# Altium footprint library LESD5D5P0CT1G.PcbLib: 3 footprints
Each footprint in its own frame and in the unit in brackets; x right, y up, seen from the top. Pads: shape width x height; smd on the part's side, far side on the other; paste and mask are expansions set on the pad; w line width, h text height; cw(c..) or ccw(c..) is an arc to the next point about the centre after c.
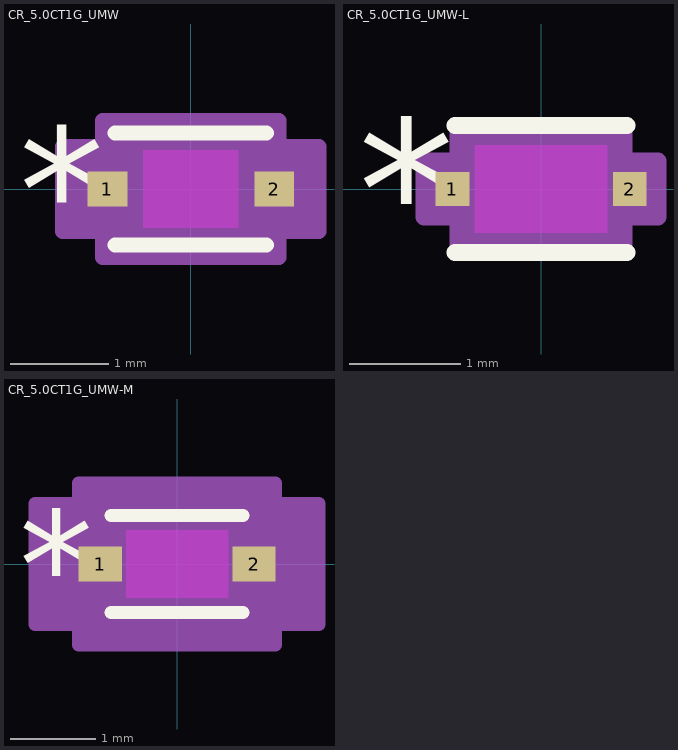
[diagram p0: the footprints below, top view; thin cyan lines are the x and y axes]

## CR_5.0CT1G_UMW [mil]
pads (2):
  rect 16x14 smd paste+0 mask+0: 1(-33.5,0) 2(33.5,0)
Top Layer keep-out:
  region: -19,-15.5 -19,15.5 19,15.5 19,-15.5
Top Overlay:
  lines w6: -30.5,-22.5 30.5,-22.5 ; -30.5,22.5 30.5,22.5
  text "*" at -69,-25 h50
Keep-Out Layer:
  region: -19,-15.5 -19,15.5 19,15.5 19,-15.5
Mechanical 13:
  lines w1: -25.5,-8.75 -16.75,-17.5 ; -25.5,8.75 -16.75,17.5 ; -33.5,-7 -25.5,-7 -25.5,7 -33.5,7 -33.5,-7 ; -25.5,-17.5 -25.5,17.5 25.5,17.5 25.5,-17.5 -25.5,-17.5 ; 25.5,-7 33.5,-7 33.5,7 25.5,7 25.5,-7
  text "*" at -28,-25 h50
Mechanical 15:
  region: -35.5,-17 -51.5,-17 -51.5,17 -35.5,17 -35.5,27.5 35.5,27.5 35.5,17 51.5,17 51.5,-17 35.5,-17 35.5,-27.5 -35.5,-27.5
  lines w6: -51.5,-17 -35.5,-17 -35.5,-27.5 35.5,-27.5 35.5,-17 51.5,-17 51.5,17 35.5,17 35.5,27.5 -35.5,27.5 -35.5,17 -51.5,17 -51.5,-17
3D body "CR_50CT1G_UMW.step": height 28.27, standoff 0, extent -33.5,-17.48 33.5,17.48

## CR_5.0CT1G_UMW-L [mil]
pads (2):
  rect 12x12 smd paste+0 mask+0: 1(-31.5,0) 2(31.5,0)
Top Layer keep-out:
  region: -23.5,-15.5 -23.5,15.5 23.5,15.5 23.5,-15.5
Top Overlay:
  lines w6: -30.5,-22.5 30.5,-22.5 ; -30.5,22.5 30.5,22.5
  text "*" at -65,-25 h50
Keep-Out Layer:
  region: -23.5,-15.5 -23.5,15.5 23.5,15.5 23.5,-15.5
Mechanical 13:
  lines w1: -25.5,-8.75 -16.75,-17.5 ; -25.5,8.75 -16.75,17.5 ; -33.5,-7 -33.5,7 -25.5,7 -25.5,-7 -33.5,-7 ; -25.5,-17.5 25.5,-17.5 25.5,17.5 -25.5,17.5 -25.5,-17.5 ; 25.5,-7 25.5,7 33.5,7 33.5,-7 25.5,-7
  text "*" at -28,-25 h50
Mechanical 15:
  region: -29.5,-10 -41.5,-10 -41.5,10 -29.5,10 -29.5,21.5 29.5,21.5 29.5,10 41.5,10 41.5,-10 29.5,-10 29.5,-21.5 -29.5,-21.5
  lines w6: -41.5,-10 -41.5,10 -29.5,10 -29.5,21.5 29.5,21.5 29.5,10 41.5,10 41.5,-10 29.5,-10 29.5,-21.5 -29.5,-21.5 -29.5,-10 -41.5,-10
3D body: height 10, standoff 0, extent 0,0 10,10

## CR_5.0CT1G_UMW-M [mil]
pads (2):
  rect 20x16 smd paste+0 mask+0: 1(-35.5,0) 2(35.5,0)
Top Layer keep-out:
  region: -23.5,-15.5 -23.5,15.5 23.5,15.5 23.5,-15.5
Top Overlay:
  lines w6: -30.5,-22.5 30.5,-22.5 ; -30.5,22.5 30.5,22.5
  text "*" at -73,-25 h50
Keep-Out Layer:
  region: -23.5,-15.5 -23.5,15.5 23.5,15.5 23.5,-15.5
Mechanical 13:
  lines w1: -25.5,-8.75 -16.75,-17.5 ; -25.5,8.75 -16.75,17.5 ; -33.5,-7 -33.5,7 -25.5,7 -25.5,-7 -33.5,-7 ; -25.5,-17.5 25.5,-17.5 25.5,17.5 -25.5,17.5 -25.5,-17.5 ; 25.5,-7 25.5,7 33.5,7 33.5,-7 25.5,-7
  text "*" at -28,-25 h50
Mechanical 15:
  region: -45.5,-28 -65.5,-28 -65.5,28 -45.5,28 -45.5,37.5 45.5,37.5 45.5,28 65.5,28 65.5,-28 45.5,-28 45.5,-37.5 -45.5,-37.5
  lines w6: -65.5,-28 -65.5,28 -45.5,28 -45.5,37.5 45.5,37.5 45.5,28 65.5,28 65.5,-28 45.5,-28 45.5,-37.5 -45.5,-37.5 -45.5,-28 -65.5,-28
3D body: height 10, standoff 0, extent 0,0 10,10